# Altium footprint library WE-HCM.PcbLib: 23 footprints (part 1 of 2)
Each footprint in its own frame and in the unit in brackets; x right, y up, seen from the top. Pads: shape width x height; smd on the part's side, far side on the other; paste and mask are expansions set on the pad; w line width, h text height; cw(c..) or ccw(c..) is an arc to the next point about the centre after c.
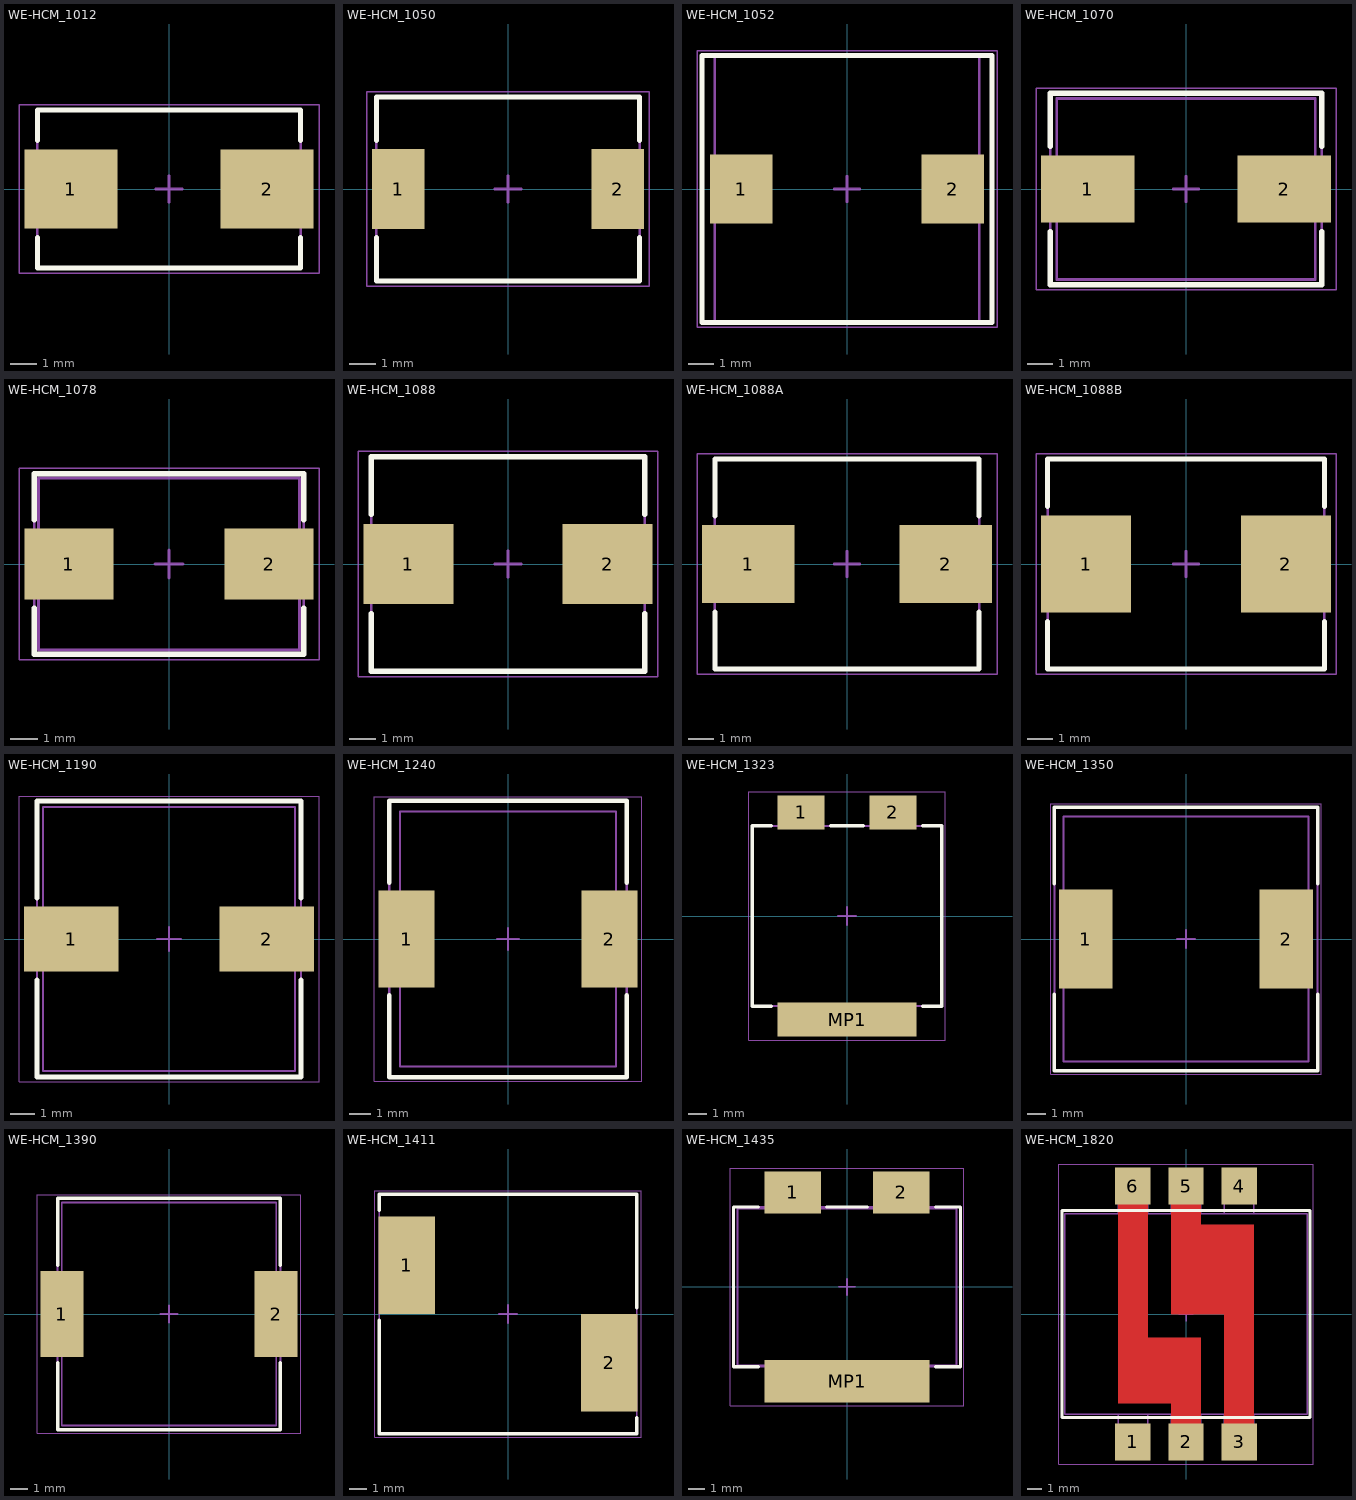
[diagram p0: the footprints below, top view; thin cyan lines are the x and y axes]

## WE-HCM_1012 [mm] "SMT High Current Flat Wire Inductor, body 10.00 x 6.00 mm"
height 12
pads (2):
  rect 3.55x3 smd: 1(-3.725,0) 2(3.725,0)
Top Overlay:
  lines w0.2: -5,-1.85 -5,-3 5,-3 5,-1.85 ; -5,1.85 -5,3 5,3 5,1.85
Top Assembly:
  lines w0.1: -5,-3 -5,3 5,3 5,-3 -5,-3
Top Designator:
  text ".Designator" at -3.647,-0.357 h1
Top 3D Body:
  lines w0.1: -5,-3 5,-3 5,3 -5,3 -5,-3
Top Courtyard:
  lines w0.05: -5.7,-3.2 -5.7,3.2 5.7,3.2 5.7,-3.2 -5.7,-3.2
Top Component Center:
  lines w0.1: -0.5,0 0.5,0 ; 0,-0.5 0,0.5
3D body "744310120xx.stp": height 12.03, standoff 0.02, extent -4.975,-2.85 4.975,2.85

## WE-HCM_1050 [mm] "SMT High Current Flat Wire Inductor, 2-Leads, body 10.20 x 7.00 mm"
height 5
pads (2):
  rect 2x3.05 smd: 1(-4.175,0) 2(4.175,0)
Top Overlay:
  lines w0.2: -5,-1.85 -5,-3.5 5,-3.5 5,-1.85 ; -5,1.85 -5,3.5 5,3.5 5,1.85
Top Assembly:
  lines w0.1: -5,-3.5 5,-3.5 5,3.5 -5,3.5 -5,-3.5
Top Designator:
  text ".Designator" at -3.647,-0.357 h1
Top 3D Body:
  lines w0.1: -5,-3.5 -5,3.5 5,3.5 5,-3.5 -5,-3.5
Top Courtyard:
  lines w0.05: -5.375,-3.7 5.375,-3.7 5.375,3.7 -5.375,3.7 -5.375,-3.7
Top Component Center:
  lines w0.1: -0.5,0 0.5,0 ; 0,-0.5 0,0.5
3D body "7443030xx.stp": height 5, standoff 0, extent -5.1,-3.5 5.1,3.5

## WE-HCM_1052 [mm] "SMT High Current Flat Wire Inductor, 2-Leads, body 10.50 x 10.30 mm"
height 5
pads (2):
  rect 2.45x2.7 smd: 1(-4.125,0) 2(4.125,0)
Top Overlay:
  lines w0.2: -5.65,-5.2 -5.65,5.2 5.65,5.2 5.65,-5.2 -5.65,-5.2
Top Assembly:
  lines w0.1: -5.65,-5.2 5.65,-5.2 5.65,5.2 -5.65,5.2 -5.65,-5.2
Top Designator:
  text ".Designator" at -3.647,-0.357 h1
Top 3D Body:
  lines w0.1: -5.15,-5.15 5.15,-5.15 5.15,5.15 -5.15,5.15 -5.15,-5.15
Top Courtyard:
  lines w0.05: -5.85,-5.4 5.85,-5.4 5.85,5.4 -5.85,5.4 -5.85,-5.4
Top Component Center:
  lines w0.1: -0.5,0 0.5,0 ; 0,-0.5 0,0.5
3D body "7443060xx.stp": height 5, standoff 0, extent -5.25,-5.15 5.25,5.15

## WE-HCM_1070 [mm] "SMT High Current Flat Wire Inductor, 2-Leads, body 10.10 x 7.00 mm"
height 6.8
pads (2):
  rect 3.6x2.6 smd: 1(-3.8,0) 2(3.8,0)
Top Overlay:
  lines w0.2: -5.25,-1.65 -5.25,-3.7 5.25,-3.7 5.25,-1.65 ; -5.25,1.65 -5.25,3.7 5.25,3.7 5.25,1.65
Top Assembly:
  lines w0.1: -5.25,-3.7 -5.25,3.7 5.25,3.7 5.25,-3.7 -5.25,-3.7
Top Designator:
  text ".Designator" at -3.647,-0.357 h1
Top 3D Body:
  lines w0.1: -5,-3.5 5,-3.5 5,3.5 -5,3.5 -5,-3.5
Top Courtyard:
  lines w0.05: -5.8,-3.9 -5.8,3.9 5.8,3.9 5.8,-3.9 -5.8,-3.9
Top Component Center:
  lines w0.1: -0.5,0 0.5,0 ; 0,-0.5 0,0.5
3D body "7443080xx.stp": height 6.8, standoff 0, extent -5.05,-3.5 5.05,3.5

## WE-HCM_1078 [mm] "SMT High Current Flat Wire Inductor, 2-Leads, body 9.40 x 6.20 mm"
height 7.8
pads (2):
  rect 3.2x2.54 smd: 1(-3.6,0) 2(3.6,0)
Top Overlay:
  lines w0.2: -4.85,-1.6 -4.85,-3.25 4.85,-3.25 4.85,-1.6 ; -4.85,1.6 -4.85,3.25 4.85,3.25 4.85,1.6
Top Assembly:
  lines w0.1: -4.85,-3.25 -4.85,3.25 4.85,3.25 4.85,-3.25 -4.85,-3.25
Top Designator:
  text ".Designator" at -3.647,-0.357 h1
Top 3D Body:
  lines w0.1: -4.7,-3.1 4.7,-3.1 4.7,3.1 -4.7,3.1 -4.7,-3.1
Top Courtyard:
  lines w0.05: -5.4,-3.45 -5.4,3.45 5.4,3.45 5.4,-3.45 -5.4,-3.45
Top Component Center:
  lines w0.1: -0.5,0 0.5,0 ; 0,-0.5 0,0.5
3D body "74430810xx.stp": height 7.8, standoff 0, extent -4.7,-3.1 4.7,3.1

## WE-HCM_1088 [mm] "SMT High Current Flat Wire Inductor, 2-Leads, body 10.20 x 8.00 mm"
height 8.1
pads (2):
  rect 3.365x3 smd: 1(-3.712,0) 2(3.712,0)
Top Overlay:
  lines w0.2: -5.1,-1.85 -5.1,-4 5.1,-4 5.1,-1.85 ; -5.1,1.85 -5.1,4 5.1,4 5.1,1.85
Top Assembly:
  lines w0.1: -5.1,-4 5.1,-4 5.1,4 -5.1,4 -5.1,-4
Top Designator:
  text ".Designator" at -3.647,-0.357 h1
Top 3D Body:
  lines w0.1: -5.1,-4 -5.1,4 5.1,4 5.1,-4 -5.1,-4
Top Courtyard:
  lines w0.05: -5.595,-4.2 5.595,-4.2 5.595,4.2 -5.595,4.2 -5.595,-4.2
Top Component Center:
  lines w0.1: -0.5,0 0.5,0 ; 0,-0.5 0,0.5
3D body "74430820xx.stp": height 8.02, standoff 0.02, extent -5.1,-4.05 5.1,4.05

## WE-HCM_1088A [mm] "SMT High Current Flat Wire Inductor, 2-Leads, body 10.20 x 8.10 mm"
height 8.1
pads (2):
  rect 3.56x3 smd: 1(-3.81,0) 2(3.81,0)
Top Overlay:
  lines w0.2: -5.1,-1.85 -5.1,-4.05 5.1,-4.05 5.1,-1.85 ; -5.1,1.85 -5.1,4.05 5.1,4.05 5.1,1.85
Top Assembly:
  lines w0.1: -5.1,-4.05 -5.1,4.05 5.1,4.05 5.1,-4.05 -5.1,-4.05
Top Designator:
  text ".Designator" at -3.647,-0.357 h1
Top 3D Body:
  lines w0.1: -5.1,-4.05 5.1,-4.05 5.1,4.05 -5.1,4.05 -5.1,-4.05
Top Courtyard:
  lines w0.05: -5.79,-4.25 -5.79,4.25 5.79,4.25 5.79,-4.25 -5.79,-4.25
Top Component Center:
  lines w0.1: -0.5,0 0.5,0 ; 0,-0.5 0,0.5
3D body "Downloads_STP_7443082015A (rev1).stp": height 8.02, standoff 0.02, extent -5.1,-4.05 5.1,4.05

## WE-HCM_1088B [mm] "SMT High Current Flat Wire Inductor, 2-Leads, body 10.80 x 8.20 mm"
height 8.5
pads (2):
  rect 3.5x3.8 smd: 1(-3.9,0) 2(3.9,0)
Top Overlay:
  lines w0.2: -5.4,-2.25 -5.4,-4.1 5.4,-4.1 5.4,-2.25 ; -5.4,2.25 -5.4,4.1 5.4,4.1 5.4,2.25
Top Assembly:
  lines w0.1: -5.4,-4.1 -5.4,4.1 5.4,4.1 5.4,-4.1 -5.4,-4.1
Top Designator:
  text ".Designator" at -3.647,-0.357 h1
Top 3D Body:
  lines w0.1: -5.4,-4.1 5.4,-4.1 5.4,4.1 -5.4,4.1 -5.4,-4.1
Top Courtyard:
  lines w0.05: -5.85,-4.3 -5.85,4.3 5.85,4.3 5.85,-4.3 -5.85,-4.3
Top Component Center:
  lines w0.1: -0.5,0 0.5,0 ; 0,-0.5 0,0.5
3D body "74430820xxB.stp": height 8.2, standoff 0, extent -5.125,-3.8 5.125,3.8

## WE-HCM_1190 [mm] "SMT High Current Flat Wire Inductor, 2-Leads, body 11.30 x 11.00 mm"
height 8.9
pads (2):
  rect 3.95x2.7 smd: 1(-4.075,0) 2(4.075,0)
Top Overlay:
  lines w0.2: -5.5,-1.7 -5.5,-5.75 5.5,-5.75 5.5,-1.7 ; -5.5,1.7 -5.5,5.75 5.5,5.75 5.5,1.7
Top Assembly:
  lines w0.1: -5.5,-5.75 5.5,-5.75 5.5,5.75 -5.5,5.75 -5.5,-5.75
Top Designator:
  text ".Designator" at -3.647,-0.357 h1
Top 3D Body:
  lines w0.1: -5.25,-5.5 -5.25,5.5 5.25,5.5 5.25,-5.5 -5.25,-5.5
Top Courtyard:
  lines w0.05: -6.25,-5.95 6.25,-5.95 6.25,5.95 -6.25,5.95 -6.25,-5.95
Top Component Center:
  lines w0.1: -0.5,0 0.5,0 ; 0,-0.5 0,0.5
3D body "7443010xx.stp": height 8.9, standoff 0, extent -5.65,-5.5 5.65,5.5

## WE-HCM_1240 [mm] "SMT High Current Flat Wire Inductor, 2-Leads, body 11.80 x 11.50 mm"
height 3.8
pads (2):
  rect 2.6x4.5 smd: 1(-4.7,0) 2(4.7,0)
Top Overlay:
  lines w0.2: -5.5,-2.6 -5.5,-6.4 5.5,-6.4 5.5,-2.6 ; -5.5,2.6 -5.5,6.4 5.5,6.4 5.5,2.6
Top Assembly:
  lines w0.1: -5.5,-6.4 -5.5,6.4 5.5,6.4 5.5,-6.4 -5.5,-6.4
Top Designator:
  text ".Designator" at -3.647,-0.357 h1
Top 3D Body:
  lines w0.1: -5,-5.9 5,-5.9 5,5.9 -5,5.9 -5,-5.9
Top Courtyard:
  lines w0.05: -6.2,-6.6 6.2,-6.6 6.2,6.6 -6.2,6.6 -6.2,-6.6
Top Component Center:
  lines w0.1: -0.5,0 0.5,0 ; 0,-0.5 0,0.5
3D body "7443040xx.stp": height 3.82, standoff 0.02, extent -5.75,-5.65 5.75,5.65

## WE-HCM_1323 [mm] "SMT High Current Flat Wire Inductor, 2-Leads, body 13.00 x 10.50 mm"
height 2.3
pads (3):
  rect 2.6x1.9 smd: 1(-2.55,5.75) 2(2.55,5.75)
  rect 7.7x1.9 smd: MP1(0,-5.75)
Top Overlay:
  lines w0.2: -4.2,-5 -5.25,-5 -5.25,5 -4.2,5 ; -0.9,5 0.9,5 ; 4.2,-5 5.25,-5 5.25,5 4.2,5
Top Assembly:
  lines w0.1: -3.55,5 -3.55,6.3 -1.55,6.3 -1.55,5 ; -3.45,-5 -3.45,-6.3 3.45,-6.3 3.45,-5 ; 1.55,5 1.55,6.3 3.55,6.3 3.55,5 ; -5.25,-5 -5.25,5 5.25,5 5.25,-5 -5.25,-5
Top Designator:
  text ".Designator" at -3.647,-0.357 h1
Top 3D Body:
  lines w0.1: -3.55,5 -3.55,6.3 -1.55,6.3 -1.55,5 ; -3.45,-5 -3.45,-6.3 3.45,-6.3 3.45,-5 ; 1.55,5 1.55,6.3 3.55,6.3 3.55,5 ; -5.25,-5 5.25,-5 5.25,5 -5.25,5 -5.25,-5
Top Courtyard:
  lines w0.05: -5.45,-6.9 5.45,-6.9 5.45,6.9 -5.45,6.9 -5.45,-6.9
Top Component Center:
  lines w0.1: -0.5,0 0.5,0 ; 0,-0.5 0,0.5
3D body "744313230xxx.stp": height 2.3, standoff 0, extent -5.25,-6.3 5.25,6.3

## WE-HCM_1350 [mm] "SMT High Current Flat Wire Inductor, 2-Leads, body 13.50 x 13.30 mm"
height 5
pads (2):
  rect 2.9x5.4 smd: 1(-5.45,0) 2(5.45,0)
Top Overlay:
  lines w0.2: -7.15,-3 -7.15,-7.15 7.15,-7.15 7.15,-3 ; -7.15,3 -7.15,7.15 7.15,7.15 7.15,3
Top Assembly:
  lines w0.1: -7.15,-7.15 7.15,-7.15 7.15,7.15 -7.15,7.15 -7.15,-7.15
Top Designator:
  text ".Designator" at -3.647,-0.357 h1
Top 3D Body:
  lines w0.1: -6.65,-6.65 -6.65,6.65 6.65,6.65 6.65,-6.65 -6.65,-6.65
Top Courtyard:
  lines w0.05: -7.35,-7.35 7.35,-7.35 7.35,7.35 -7.35,7.35 -7.35,-7.35
Top Component Center:
  lines w0.1: -0.5,0 0.5,0 ; 0,-0.5 0,0.5
3D body "7443050xx.stp": height 5.02, standoff 0.02, extent -6.75,-6.65 6.75,6.65

## WE-HCM_1390 [mm] "SMT High Current Flat Wire Inductor, 2-Leads, body 14.00 x 13.00 mm"
height 9
pads (2):
  rect 2.5x5 smd: 1(-6.25,0) 2(6.25,0)
Top Overlay:
  lines w0.2: -6.5,-2.85 -6.5,-6.75 6.5,-6.75 6.5,-2.85 ; -6.5,2.85 -6.5,6.75 6.5,6.75 6.5,2.85
Top Assembly:
  lines w0.1: -6.5,-6.75 6.5,-6.75 6.5,6.75 -6.5,6.75 -6.5,-6.75
Top Designator:
  text ".Designator" at -3.647,-0.357 h1
Top 3D Body:
  lines w0.1: -6.25,-6.5 -6.25,6.5 6.25,6.5 6.25,-6.5 -6.25,-6.5
Top Courtyard:
  lines w0.05: -7.7,-6.95 7.7,-6.95 7.7,6.95 -7.7,6.95 -7.7,-6.95
Top Component Center:
  lines w0.1: -0.5,0 0.5,0 ; 0,-0.5 0,0.5
3D body "7443090xx.stp": height 9.03, standoff 0.03, extent -7,-6.5 7,6.5

## WE-HCM_1411 [mm] "SMT High Current Flat Wire Inductor, 2-Leads, body 14.50 x 13.50 mm"
height 10.7
pads (2):
  rect 3.2x5.5 smd: 1(-5.7,2.75) 2(5.7,-2.75)
Top Overlay:
  lines w0.2: -7.25,-0.35 -7.25,-6.75 7.25,-6.75 7.25,-5.85 ; -7.25,5.85 -7.25,6.75 7.25,6.75 7.25,0.35
Top Assembly:
  lines w0.1: -7.25,-6.75 -7.25,6.75 7.25,6.75 7.25,-6.75 -7.25,-6.75
Top Designator:
  text ".Designator" at -3.647,-0.357 h1
Top 3D Body:
  lines w0.1: -7.25,-6.75 7.25,-6.75 7.25,6.75 -7.25,6.75 -7.25,-6.75
Top Courtyard:
  lines w0.05: -7.5,-6.95 -7.5,6.95 7.5,6.95 7.5,-6.95 -7.5,-6.95
Top Component Center:
  lines w0.1: -0.5,0 0.5,0 ; 0,-0.5 0,0.5
3D body "7443091xxx.stp": height 10.3, standoff 0, extent -7.05,-6.5 7.05,6.5

## WE-HCM_1435 [mm] "SMT High Current Flat Wire Inductor, 2-Leads, body 13.65 x 13.50 mm"
height 3.5
pads (3):
  rect 3.5x2.6 smd: 1(-3.35,5.825) 2(3.35,5.825)
  rect 10.2x2.6 smd: MP1(0,-5.825)
Top Overlay:
  lines w0.2: -5.45,-4.925 -7,-4.925 -7,4.925 -5.45,4.925 ; -1.25,4.925 1.25,4.925 ; 5.45,-4.925 7,-4.925 7,4.925 5.45,4.925
Top Assembly:
  lines w0.1: -7,-4.925 7,-4.925 7,4.925 -7,4.925 -7,-4.925
Top Designator:
  text ".Designator" at -3.647,-0.357 h1
Top 3D Body:
  lines w0.1: -4.85,4.825 -4.85,6.75 -1.85,6.75 -1.85,4.825 ; -4.8,-4.825 -4.8,-6.75 4.8,-6.75 4.8,-4.825 ; 1.85,4.825 1.85,6.75 4.85,6.75 4.85,4.825 ; -6.75,-4.825 -6.75,4.825 6.75,4.825 6.75,-4.825 -6.75,-4.825
Top Courtyard:
  lines w0.05: -7.2,-7.325 7.2,-7.325 7.2,7.325 -7.2,7.325 -7.2,-7.325
Top Component Center:
  lines w0.1: -0.5,0 0.5,0 ; 0,-0.5 0,0.5
3D body "74431435xxx.stp": height 3.5, standoff 0, extent -6.825,-6.75 6.825,6.75

## WE-HCM_1820 [mm] "SMT High Current Flat Wire Inductor, 2-Leads, body 16.40 x 13.60 mm"
height 2
pads (6):
  rect 2.4x2.5 smd: 1(-3.6,-8.65) 2(0,-8.65) 3(3.6,-8.65) 4(3.6,8.65) 5(0,8.65) 6(-3.6,8.65)
Top Layer:
  region: -4.6,-6.05 -4.6,8.8 -2.6,8.8 -2.6,-1.6 1,-1.6 1,-8.75 -1,-8.75 -1,-6.05
  region: -1,0 -1,8.75 1,8.75 1,6.05 4.6,6.05 4.6,-8.8 2.6,-8.8 2.6,0
Top Overlay:
  lines w0.2: -8.4,-7 -8.4,7 8.4,7 8.4,-7 -8.4,-7
Top Assembly:
  lines w0.1: -8.4,-7 8.4,-7 8.4,7 -8.4,7 -8.4,-7
Top Designator:
  text ".Designator" at -3.647,-0.357 h1
Top 3D Body:
  lines w0.1: -4.6,-6.8 -4.6,-9.7 -2.6,-9.7 -2.6,-6.8 ; -4.6,6.8 -4.6,9.7 -2.6,9.7 -2.6,6.8 ; -1,-6.8 -1,-9.7 1,-9.7 1,-6.8 ; -1,6.8 -1,9.7 1,9.7 1,6.8 ; 2.6,-6.8 2.6,-9.7 4.6,-9.7 4.6,-6.8 ; 2.6,6.8 2.6,9.7 4.6,9.7 4.6,6.8 ; -8.2,-6.8 -8.2,6.8 8.2,6.8 8.2,-6.8 -8.2,-6.8
Top Courtyard:
  lines w0.05: -8.6,-10.15 -8.6,10.15 8.6,10.15 8.6,-10.15 -8.6,-10.15
Top Component Center:
  lines w0.1: -0.5,0 0.5,0 ; 0,-0.5 0,0.5
3D body "7443182100.stp": height 2.2, standoff 0, extent -8.2,-9.7 8.2,9.7